# Altium footprint library XT60.PcbLib: 1 footprints
Each footprint in its own frame and in the unit in brackets; x right, y up, seen from the top. Pads: shape width x height; smd on the part's side, far side on the other; paste and mask are expansions set on the pad; w line width, h text height; cw(c..) or ccw(c..) is an arc to the next point about the centre after c.
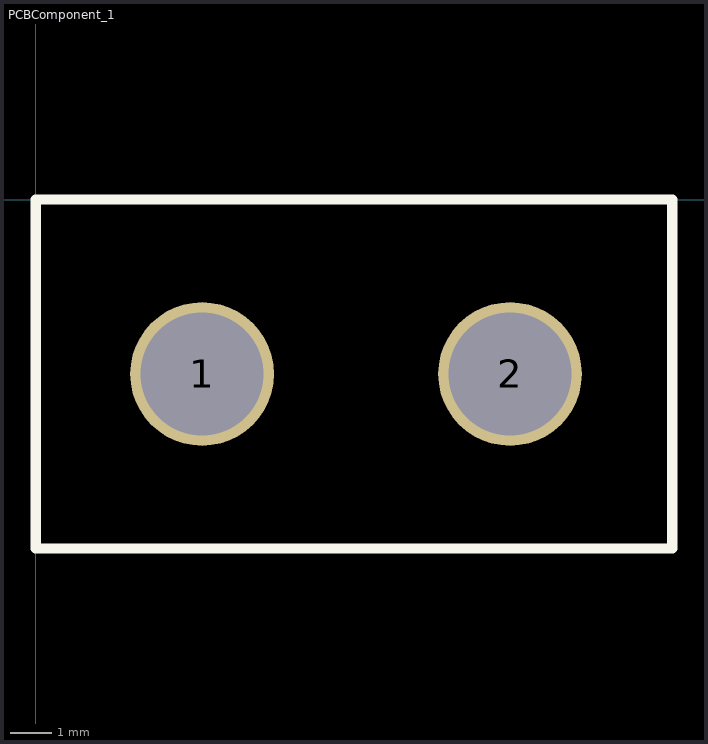
[diagram p0: the footprint, top view; thin cyan lines are the x and y axes]

## PCBComponent_1 [mm]
pads (2):
  round 3.5 hole 3: 1(4.05,-4.25) 2(11.55,-4.25)
Top Overlay:
  lines w0.254: 0,-4.3 0,0 ; 0,-0.1 0,-8.5 15.5,-8.5 15.5,0 0,0 ; 4.05,-4.25 4.05,-3.5 ; 7.75,0 0,0 ; 11.45,-4.25 11.45,-3